# EAGLE library part AD7705B (library doz)
Analog devices cheap adc
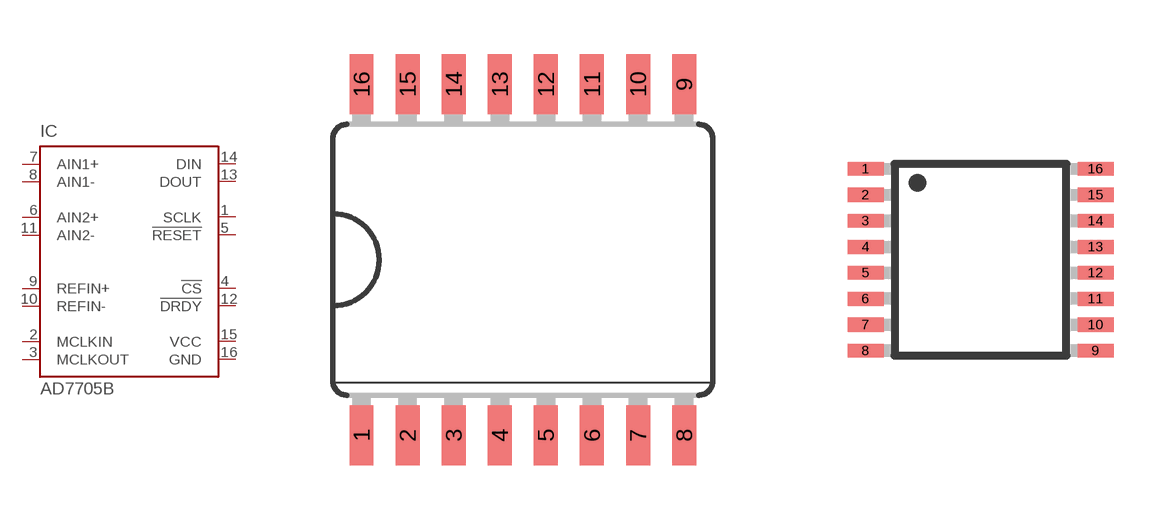
[diagram p5: symbol with the pads of SO16W; footprints SO16W, TSSOP16]

Designator prefix IC

## AD7705BRZ  [SO16W]
1  SCLK  in
2  MCLKIN  in
3  MCLKOUT  out
4  !CS  in
5  !RESET  in
6  AIN2+  in
7  AIN1+  in
8  AIN1-  in
9  REFIN+  in
10  REFIN-  in
11  AIN2-  in
12  !DRDY  out
13  DOUT  out
14  DIN  in
15  VCC  pwr
16  GND  pwr

## AD7705BRUZ  [TSSOP16]
Pads as for SO16W

## AD7705BPEREHODNIK  [SO16W]
1  GND  pwr
2  VCC  pwr
3  DIN  in
4  DOUT  out
5  !DRDY  out
6  AIN2-  in
7  REFIN-  in
8  REFIN+  in
9  AIN1-  in
10  AIN1+  in
11  AIN2+  in
12  !RESET  in
13  !CS  in
14  MCLKOUT  out
15  MCLKIN  in
16  SCLK  in

## AD7705BRZ/RUZ  [SO16W_TSSOP16]
1  SCLK  in
1B  SCLK  in
2  MCLKIN  in
2B  MCLKIN  in
3  MCLKOUT  out
3B  MCLKOUT  out
4  !CS  in
4B  !CS  in
5  !RESET  in
5B  !RESET  in
6  AIN2+  in
6B  AIN2+  in
7  AIN1+  in
7B  AIN1+  in
8  AIN1-  in
8B  AIN1-  in
9  REFIN+  in
9B  REFIN+  in
10  REFIN-  in
10B  REFIN-  in
11  AIN2-  in
11B  AIN2-  in
12  !DRDY  out
12B  !DRDY  out
13  DOUT  out
13B  DOUT  out
14  DIN  in
14B  DIN  in
15  VCC  pwr
15B  VCC  pwr
16  GND  pwr
16B  GND  pwr

## Footprint SO16W (pad centres in mm)
smd 0.66 x 1.651: 1 -4.445,-4.839; 2 -3.175,-4.839; 3 -1.905,-4.839; 4 -0.635,-4.839; 5 0.635,-4.839; 6 1.905,-4.839; 7 3.175,-4.839; 8 4.445,-4.839; 9 4.445,4.839; 10 3.175,4.839; 11 1.905,4.839; 12 0.635,4.839; 13 -0.635,4.839; 14 -1.905,4.839; 15 -3.175,4.839; 16 -4.445,4.839

## Footprint TSSOP16 (pad centres in mm)
16-Lead Thin Shrink Small Outline Package [TSSOP] (RU-16) Source: 8x ADG1408_1409.pdf
smd 0.9 x 0.35: 1 -2.875,2.275; 2 -2.875,1.625; 3 -2.875,0.975; 4 -2.875,0.325; 5 -2.875,-0.325; 6 -2.875,-0.975; 7 -2.875,-1.625; 8 -2.875,-2.275; 9 2.875,-2.275; 10 2.875,-1.625; 11 2.875,-0.975; 12 2.875,-0.325; 13 2.875,0.325; 14 2.875,0.975; 15 2.875,1.625; 16 2.875,2.275

## Footprint SO16W_TSSOP16 (pad centres in mm)
smd 0.66 x 1.651: 1 -4.445,-5.22; 2 -3.175,-5.22; 3 -1.905,-5.22; 4 -0.635,-5.22; 5 0.635,-5.22; 6 1.905,-5.22; 7 3.175,-5.22; 8 4.445,-5.22; 9 4.445,5.22; 10 3.175,5.22; 11 1.905,5.22; 12 0.635,5.22; 13 -0.635,5.22; 14 -1.905,5.22; 15 -3.175,5.22; 16 -4.445,5.22
smd 0.35 x 0.9: 1B -2.275,-2.875; 2B -1.625,-2.875; 3B -0.975,-2.875; 4B -0.325,-2.875; 5B 0.325,-2.875; 6B 0.975,-2.875; 7B 1.625,-2.875; 8B 2.275,-2.875; 9B 2.275,2.875; 10B 1.625,2.875; 11B 0.975,2.875; 12B 0.325,2.875; 13B -0.325,2.875; 14B -0.975,2.875; 15B -1.625,2.875; 16B -2.275,2.875